# Altium footprint library Gelnar.PcbLib: 295 footprints (part 3 of 19)
Each footprint in its own frame and in the unit in brackets; x right, y up, seen from the top. Pads: shape width x height; smd on the part's side, far side on the other; paste and mask are expansions set on the pad; w line width, h text height; cw(c..) or ccw(c..) is an arc to the next point about the centre after c.
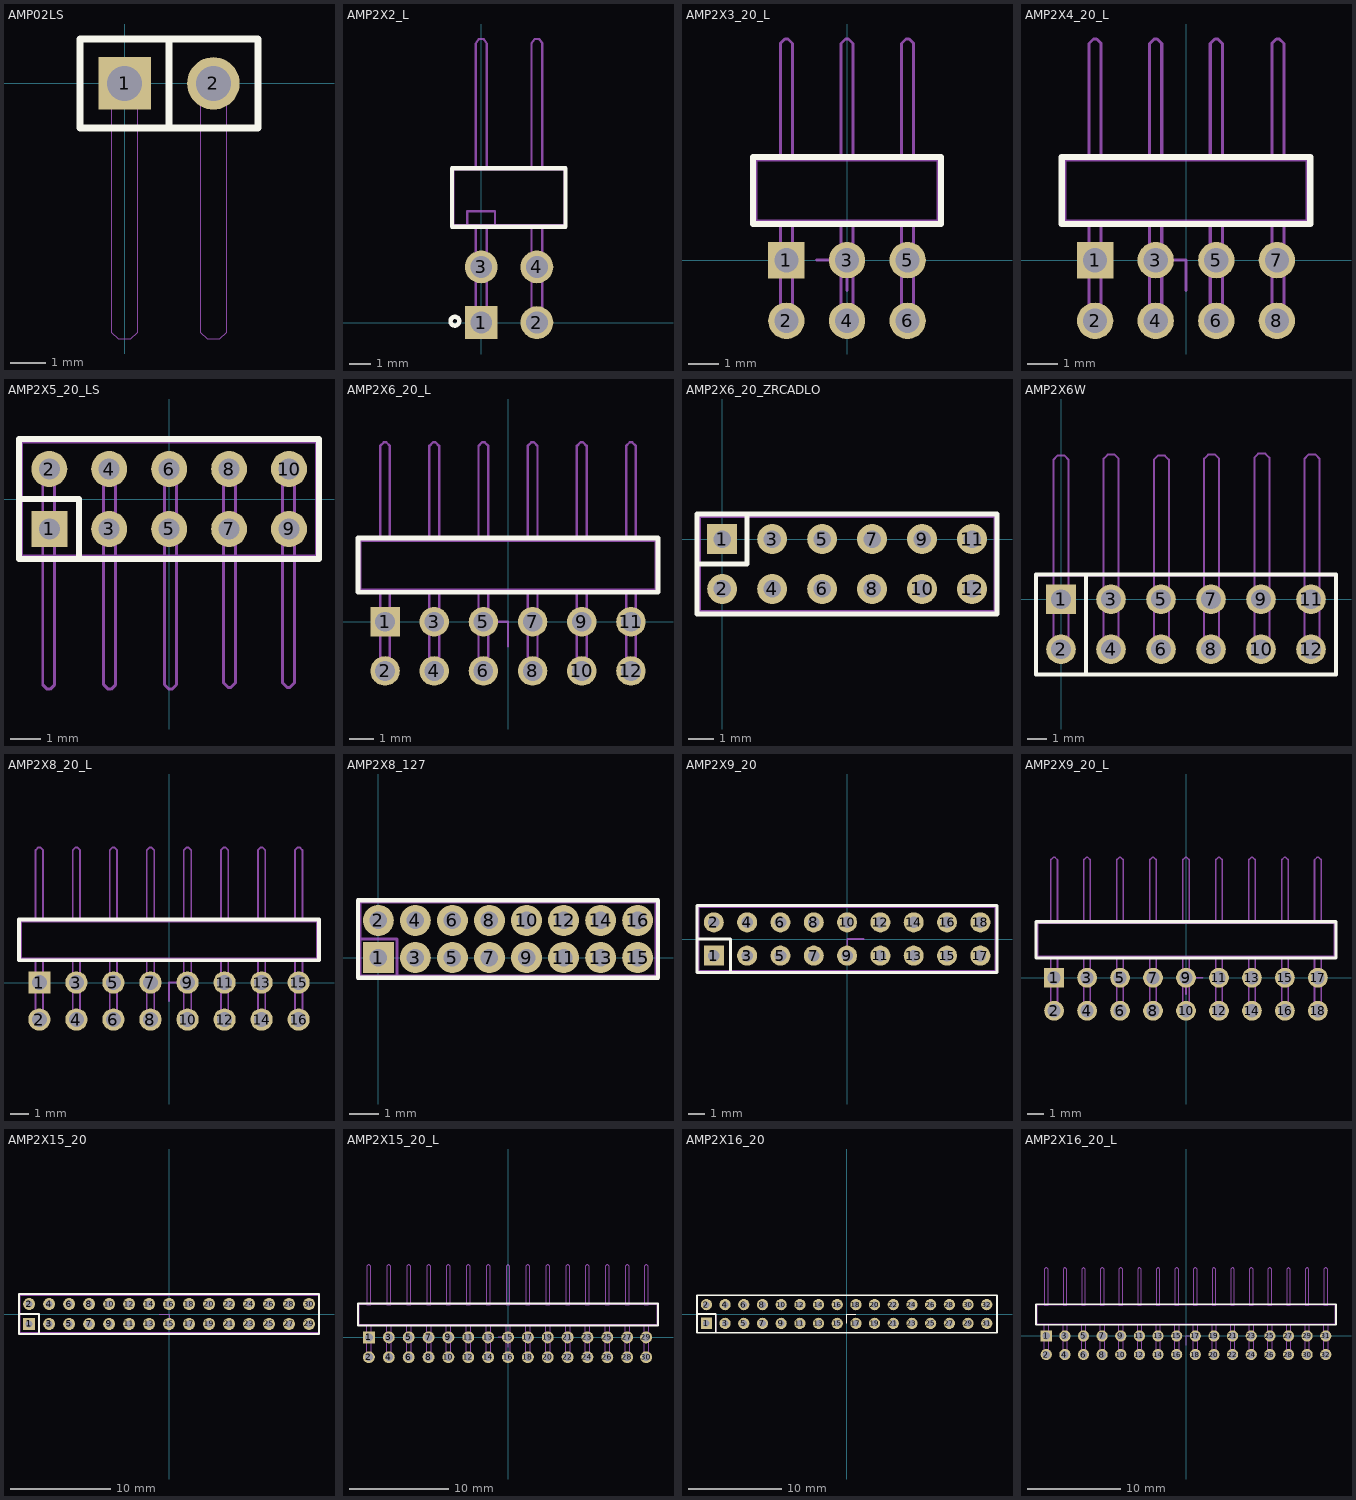
[diagram p2: the footprints below, top view; thin cyan lines are the x and y axes]

## AMP02LS [mm]
height 9.5
pads (2):
  rect 1.5x1.5 hole 1 mask+0.05: 1(0,0)
  round 1.5 hole 1 mask+0.05: 2(2.54,0)
Top Overlay:
  lines w0.2: 1.27,-1.27 1.27,1.27 ; -1.27,-1.27 3.81,-1.27 3.81,1.27 -1.27,1.27 -1.27,-1.27
Mechanical 15:
  lines w0.01: -1.27,-1.27 3.81,-1.27 3.81,1.27 -1.27,1.27 -1.27,-1.27 ; -0.381,-7.103 -0.381,0 0.381,0 0.381,-7.103 0.181,-7.302 -0.181,-7.302 -0.381,-7.103 ; 2.159,-7.103 2.159,0 2.921,0 2.921,-7.103 2.721,-7.302 2.359,-7.302 2.159,-7.103
  lines w0.1: 1.27,-1.27 1.27,1.27
Mechanical 20:
  lines w0.01: -1.206,-1.206 3.746,-1.206 3.746,1.206 -1.206,1.206 -1.206,-1.206

## AMP2X2_L [mm]
height 9.5
pads (4):
  rect 1.5x1.5 hole 1 mask+0.1: 1(0,0)
  round 1.5 hole 1 mask+0.1: 2(2.54,0) 3(0,2.54) 4(2.54,2.54)
Top Overlay:
  circle w0.2: c-1.206,0.064 r0.2
  lines w0.2: -1.333,4.381 3.85,4.381 3.85,7.048 -1.333,7.048 -1.333,4.381
Mechanical 15:
  lines w0.1: -0.25,0 -0.25,4.445 ; 0.25,0 0.25,4.445 ; 2.29,0 2.29,4.445 ; 2.79,0 2.79,4.445 ; -1.27,4.445 3.81,4.445 3.81,6.985 -1.27,6.985 -1.27,4.445 ; -0.635,4.445 0.635,4.445 0.635,5.08 -0.635,5.08 -0.635,4.445 ; -0.25,7.035 0.25,7.035 0.25,12.75 0.1,12.95 -0.1,12.95 -0.25,12.75 -0.25,7.035 ; 2.29,7.035 2.79,7.035 2.79,12.75 2.64,12.95 2.44,12.95 2.29,12.75 2.29,7.035
Multi-Layer:
  text "Value" at 1.368,2.941 h0.75
Mechanical 20:
  lines w0.1: -1.333,4.381 3.85,4.381 3.85,7.048 -1.333,7.048 -1.333,4.381

## AMP2X3_20_L [mm]
pads (6):
  rect 1.2x1.2 hole 0.8 mask+0.05: 1(-2,0)
  round 1.2 hole 0.8 mask+0.05: 2(-2,-2) 3(0,0) 4(0,-2) 5(2,0) 6(2,-2)
Top Overlay:
  lines w0.2: -3.1,1.2 3.1,1.2 3.1,3.4 -3.1,3.4 -3.1,1.2
Mechanical 15:
  lines w0.1: -3,1.3 3,1.3 3,3.3 -3,3.3 -3,1.3 ; -2.2,-2 -1.8,-2 -1.8,1.3 -2.2,1.3 -2.2,-2 ; -2.2,3.3 -1.8,3.3 -1.8,7.15 -1.95,7.3 -2.05,7.3 -2.2,7.15 -2.2,3.3 ; -0.2,-2 0.2,-2 0.2,1.3 -0.2,1.3 -0.2,-2 ; -0.2,3.3 0.2,3.3 0.2,7.15 0.05,7.3 -0.05,7.3 -0.2,7.15 -0.2,3.3 ; 1.8,-2 2.2,-2 2.2,1.3 1.8,1.3 1.8,-2 ; 1.8,3.3 2.2,3.3 2.2,7.15 2.05,7.3 1.95,7.3 1.8,7.15 1.8,3.3
Mechanical 19:
  lines w0.1: -1,0 0,0 0,-1
Mechanical 20:
  lines w0.1: -3.1,1.2 3.1,1.2 3.1,3.4 -3.1,3.4 -3.1,1.2

## AMP2X4_20_L [mm]
pads (8):
  rect 1.2x1.2 hole 0.8 mask+0.05: 1(-3,0)
  round 1.2 hole 0.8 mask+0.05: 2(-3,-2) 3(-1,0) 4(-1,-2) 5(1,0) 6(1,-2) 7(3,0) 8(3,-2)
Top Overlay:
  lines w0.2: -4.1,1.2 4.1,1.2 4.1,3.4 -4.1,3.4 -4.1,1.2
Mechanical 15:
  lines w0.1: -4,1.3 4,1.3 4,3.3 -4,3.3 -4,1.3 ; -3.2,-2 -2.8,-2 -2.8,1.3 -3.2,1.3 -3.2,-2 ; -3.2,3.3 -2.8,3.3 -2.8,7.15 -2.95,7.3 -3.05,7.3 -3.2,7.15 -3.2,3.3 ; -1.2,-2 -0.8,-2 -0.8,1.3 -1.2,1.3 -1.2,-2 ; -1.2,3.3 -0.8,3.3 -0.8,7.15 -0.95,7.3 -1.05,7.3 -1.2,7.15 -1.2,3.3 ; 0.8,-2 1.2,-2 1.2,1.3 0.8,1.3 0.8,-2 ; 0.8,3.3 1.2,3.3 1.2,7.15 1.05,7.3 0.95,7.3 0.8,7.15 0.8,3.3 ; 2.832,-2 3.232,-2 3.232,1.3 2.832,1.3 2.832,-2 ; 2.832,3.3 3.232,3.3 3.232,7.15 3.082,7.3 2.982,7.3 2.832,7.15 2.832,3.3
Multi-Layer:
  text "Value" at 3.165,2.075 h0.75
Mechanical 19:
  lines w0.1: -1,0 0,0 0,-1
Mechanical 20:
  lines w0.1: -4.1,1.2 4.1,1.2 4.1,3.4 -4.1,3.4 -4.1,1.2

## AMP2X5_20_LS [mm]
pads (10):
  rect 1.2x1.2 hole 0.7 mask+0.1: 1(-4,-1)
  round 1.2 hole 0.7 mask+0.1: 2(-4,1) 3(-2,-1) 4(-2,1) 5(0,-1) 6(0,1) 7(2,-1) 8(2,1) 9(4,-1) 10(4,1)
Top Overlay:
  lines w0.2: -5,0 -3,0 -3,-2 ; -5.01,-2.01 5,-2.01 5,2.01 -5.01,2.01 -5.01,-2.01
Mechanical 15:
  lines w0.1: -5,0 -3,0 -3,-2 ; -5,-2 5,-2 5,2 -5,2 -5,-2 ; -5,-2 -5,-2 ; -4.217,-6.198 -4.217,1.016 cw(c-4.018,1.007) -3.818,1.016 -3.818,-6.198 -3.968,-6.348 -4.068,-6.348 -4.217,-6.198 ; -2.185,-6.198 -2.185,1.016 cw(c-1.986,1.007) -1.786,1.016 -1.786,-6.198 -1.936,-6.348 -2.036,-6.348 -2.185,-6.198 ; -0.153,-6.198 -0.153,1.016 cw(c0.046,1.007) 0.246,1.016 0.246,-6.198 0.096,-6.348 -0.004,-6.348 -0.153,-6.198 ; 1.815,-6.134 1.815,1.079 cw(c2.015,1.071) 2.215,1.08 2.215,-6.134 2.065,-6.284 1.965,-6.284 1.815,-6.134 ; 3.784,-6.134 3.784,1.079 cw(c3.983,1.071) 4.183,1.08 4.183,-6.134 4.033,-6.284 3.933,-6.284 3.784,-6.134
Mechanical 20:
  lines w0.1: -4.921,-1.905 4.921,-1.905 4.921,1.905 -4.921,1.905 -4.921,-1.905

## AMP2X6_20_L [mm]
pads (12):
  rect 1.2x1.2 hole 0.8 mask+0.05: 1(-5,0)
  round 1.2 hole 0.8 mask+0.05: 2(-5,-2) 3(-3,0) 4(-3,-2) 5(-1,0) 6(-1,-2) 7(1,0) 8(1,-2) 9(3,0) 10(3,-2) 11(5,0) 12(5,-2)
Top Overlay:
  lines w0.2: -6.1,1.2 6.1,1.2 6.1,3.4 -6.1,3.4 -6.1,1.2
Mechanical 15:
  lines w0.1: -6,1.3 6,1.3 6,3.3 -6,3.3 -6,1.3 ; -5.2,-2 -4.8,-2 -4.8,1.3 -5.2,1.3 -5.2,-2 ; -5.2,3.3 -4.8,3.3 -4.8,7.15 -4.95,7.3 -5.05,7.3 -5.2,7.15 -5.2,3.3 ; -3.2,-2 -2.8,-2 -2.8,1.3 -3.2,1.3 -3.2,-2 ; -3.2,3.3 -2.8,3.3 -2.8,7.15 -2.95,7.3 -3.05,7.3 -3.2,7.15 -3.2,3.3 ; -1.2,-2 -0.8,-2 -0.8,1.3 -1.2,1.3 -1.2,-2 ; -1.2,3.3 -0.8,3.3 -0.8,7.15 -0.95,7.3 -1.05,7.3 -1.2,7.15 -1.2,3.3 ; 0.8,-2 1.2,-2 1.2,1.3 0.8,1.3 0.8,-2 ; 0.8,3.3 1.2,3.3 1.2,7.15 1.05,7.3 0.95,7.3 0.8,7.15 0.8,3.3 ; 2.8,-2 3.2,-2 3.2,1.3 2.8,1.3 2.8,-2 ; 2.8,3.3 3.2,3.3 3.2,7.15 3.05,7.3 2.95,7.3 2.8,7.15 2.8,3.3 ; 4.8,-2 5.2,-2 5.2,1.3 4.8,1.3 4.8,-2 ; 4.8,3.3 5.2,3.3 5.2,7.15 5.05,7.3 4.95,7.3 4.8,7.15 4.8,3.3
Mechanical 19:
  lines w0.1: -1,0 0,0 0,-1
Mechanical 20:
  lines w0.1: -6.1,1.2 6.1,1.2 6.1,3.4 -6.1,3.4 -6.1,1.2

## AMP2X6_20_ZRCADLO [mm]
pads (12):
  rect 1.2x1.2 hole 0.7 mask+0.05: 1(0,0)
  round 1.2 hole 0.7 mask+0.05: 2(0,-2) 3(2,0) 4(2,-2) 5(4,0) 6(4,-2) 7(6,0) 8(6,-2) 9(8,0) 10(8,-2) 11(10,0) 12(10,-2)
Top Overlay:
  lines w0.2: -1,-1 1,-1 1,1 ; -1.01,-3.01 11,-3.01 11,1.01 -1.01,1.01 -1.01,-3.01
Mechanical 15:
  lines w0.1: -1,-1 1,-1 1,1 ; -1,-3 11,-3 11,1 -1,1 -1,-3 ; -1,-3 -1,-3
Mechanical 20:
  lines w0.1: -0.9,-2.9 10.9,-2.9 10.9,0.9 -0.9,0.9 -0.9,-2.9

## AMP2X6W [mm]
height 9.5
pads (12):
  rect 1.5x1.5 hole 1 mask+0.05: 1(0,0)
  round 1.5 hole 1 mask+0.05: 2(0,-2.54) 3(2.54,0) 4(2.54,-2.54) 5(5.08,0) 6(5.08,-2.54) 7(7.62,0) 8(7.62,-2.54) 9(10.16,0) 10(10.16,-2.54) 11(12.7,0) 12(12.7,-2.54)
Top Overlay:
  lines w0.2: 1.27,-3.81 1.27,1.27 ; -1.27,-3.81 13.97,-3.81 13.97,1.27 -1.27,1.27 -1.27,-3.81
Mechanical 15:
  lines w0.1: 1.27,-3.81 1.27,1.27 ; -1.27,-3.81 13.97,-3.81 13.97,1.27 -1.27,1.27 -1.27,-3.81 ; -0.381,-2.54 0.381,-2.54 0.381,7.103 0.181,7.302 -0.181,7.302 -0.381,7.103 -0.381,-2.54 ; 2.169,-2.54 2.931,-2.54 2.931,7.153 2.731,7.352 2.369,7.352 2.169,7.153 2.169,-2.54 ; 4.719,-2.54 5.481,-2.54 5.481,7.103 5.281,7.302 4.919,7.302 4.719,7.103 4.719,-2.54 ; 7.269,-2.54 8.031,-2.54 8.031,7.153 7.831,7.352 7.469,7.352 7.269,7.153 7.269,-2.54 ; 9.819,-2.54 10.581,-2.54 10.581,7.203 10.381,7.402 10.019,7.402 9.819,7.203 9.819,-2.54 ; 12.369,-2.54 13.131,-2.54 13.131,7.153 12.931,7.352 12.569,7.352 12.369,7.153 12.369,-2.54
Multi-Layer:
  text "Value" at 9.75,-0.361 h0.75
Mechanical 20:
  lines w0.1: -1.206,-3.81 13.906,-3.81 13.906,1.206 -1.206,1.206 -1.206,-3.81

## AMP2X8_20_L [mm]
pads (16):
  rect 1.2x1.2 hole 0.8 mask+0.05: 1(-7,0)
  round 1.2 hole 0.8 mask+0.05: 2(-7,-2) 3(-5,0) 4(-5,-2) 5(-3,0) 6(-3,-2) 7(-1,0) 8(-1,-2) 9(1,0) 10(1,-2) 11(3,0) 12(3,-2) 13(5,0) 14(5,-2) 15(7,0) 16(7,-2)
Top Overlay:
  lines w0.2: -8.1,1.2 8.1,1.2 8.1,3.4 -8.1,3.4 -8.1,1.2
Mechanical 15:
  lines w0.1: -7.2,0 -6.8,0 ; -5.2,0 -4.8,0 ; -3.2,0 -2.8,0 ; -1.2,0 -0.8,0 ; 0.8,0 1.2,0 ; 2.8,0 3.2,0 ; 4.8,0 5.2,0 ; 6.8,0 7.2,0 ; -8,1.3 8,1.3 8,3.3 -8,3.3 -8,1.3 ; -7.2,-2 -6.8,-2 -6.8,1.3 -7.2,1.3 -7.2,-2 ; -7.2,3.3 -6.8,3.3 -6.8,7.15 -6.95,7.3 -7.05,7.3 -7.2,7.15 -7.2,3.3 ; -5.2,-2 -4.8,-2 -4.8,1.3 -5.2,1.3 -5.2,-2 ; -5.2,3.3 -4.8,3.3 -4.8,7.15 -4.95,7.3 -5.05,7.3 -5.2,7.15 -5.2,3.3 ; -3.2,-2 -2.8,-2 -2.8,1.3 -3.2,1.3 -3.2,-2 ; -3.2,3.3 -2.8,3.3 -2.8,7.15 -2.95,7.3 -3.05,7.3 -3.2,7.15 -3.2,3.3 ; -1.2,-2 -0.8,-2 -0.8,1.3 -1.2,1.3 -1.2,-2 ; -1.2,3.3 -0.8,3.3 -0.8,7.15 -0.95,7.3 -1.05,7.3 -1.2,7.15 -1.2,3.3 ; 0.8,-2 1.2,-2 1.2,1.3 0.8,1.3 0.8,-2 ; 0.8,3.3 1.2,3.3 1.2,7.15 1.05,7.3 0.95,7.3 0.8,7.15 0.8,3.3 ; 2.8,-2 3.2,-2 3.2,1.3 2.8,1.3 2.8,-2 ; 2.8,3.3 3.2,3.3 3.2,7.15 3.05,7.3 2.95,7.3 2.8,7.15 2.8,3.3 ; 4.8,-2 5.2,-2 5.2,1.3 4.8,1.3 4.8,-2 ; 4.8,3.3 5.2,3.3 5.2,7.15 5.05,7.3 4.95,7.3 4.8,7.15 4.8,3.3 ; 6.8,-2 7.2,-2 7.2,1.3 6.8,1.3 6.8,-2 ; 6.8,3.3 7.2,3.3 7.2,7.15 7.05,7.3 6.95,7.3 6.8,7.15 6.8,3.3
Mechanical 19:
  lines w0.1: 0,-1 0,0 1,0
Mechanical 20:
  lines w0.1: -8.1,1.2 8.1,1.2 8.1,3.4 -8.1,3.4 -8.1,1.2

## AMP2X8_127 [mm]
height 9.5
pads (16):
  rect 1.06x1.06 hole 0.6 mask+0.05: 1(0,0)
  round 1.06 hole 0.6 mask+0.05: 2(0,1.27) 3(1.27,0) 4(1.27,1.27) 5(2.54,0) 6(2.54,1.27) 7(3.81,0) 8(3.81,1.27) 9(5.08,0) 10(5.08,1.27) 11(6.35,0) 12(6.35,1.27) 13(7.62,0) 14(7.62,1.27) 15(8.89,0) 16(8.89,1.27)
Top Overlay:
  lines w0.15: -0.699,-0.699 9.588,-0.699 9.588,1.968 -0.699,1.968 -0.699,-0.699
Mechanical 15:
  lines w0.1: -0.635,0.635 0.635,0.635 0.635,-0.635 ; -0.635,-0.635 9.525,-0.635 9.525,1.905 -0.635,1.905 -0.635,-0.635
Mechanical 20:
  lines w0.1: -0.699,-0.699 9.588,-0.699 9.588,1.968 -0.699,1.968 -0.699,-0.699

## AMP2X9_20 [mm]
pads (18):
  rect 1.2x1.2 hole 0.7 mask+0.05: 1(-8,-1)
  round 1.2 hole 0.7 mask+0.05: 2(-8,1) 3(-6,-1) 4(-6,1) 5(-4,-1) 6(-4,1) 7(-2,-1) 8(-2,1) 9(0,-1) 10(0,1) 11(2,-1) 12(2,1) 13(4,-1) 14(4,1) 15(6,-1) 16(6,1) 17(8,-1) 18(8,1)
Top Overlay:
  lines w0.2: -9,0 -7,0 -7,-2 ; -9.01,-2.01 9,-2.01 9,2.01 -9.01,2.01 -9.01,-2.01
Mechanical 15:
  lines w0.1: -9,0 -7,0 -7,-2 ; -9,-2 -9,-2 9,-2 9,2 -9,2 -9,-2
Mechanical 19:
  lines w0.1: 0,-1 0,0 1,0
Mechanical 20:
  lines w0.1: -8.9,-1.9 8.9,-1.9 8.9,1.9 -8.9,1.9 -8.9,-1.9

## AMP2X9_20_L [mm]
pads (18):
  rect 1.2x1.2 hole 0.8 mask+0.05: 1(-8,0)
  round 1.2 hole 0.8 mask+0.05: 2(-8,-2) 3(-6,0) 4(-6,-2) 5(-4,0) 6(-4,-2) 7(-2,0) 8(-2,-2) 9(0,0) 10(0,-2) 11(2,0) 12(2,-2) 13(4,0) 14(4,-2) 15(6,0) 16(6,-2) 17(8,0) 18(8,-2)
Top Overlay:
  lines w0.2: -9.1,1.2 9.1,1.2 9.1,3.4 -9.1,3.4 -9.1,1.2
Mechanical 15:
  lines w0.1: -8.2,0 -7.8,0 ; -6.2,0 -5.8,0 ; -4.2,0 -3.8,0 ; -2.2,0 -1.8,0 ; -0.2,0 0.2,0 ; 1.8,0 2.2,0 ; 3.8,0 4.2,0 ; 5.8,0 6.2,0 ; 7.8,0 8.2,0 ; -9,1.3 9,1.3 9,3.3 -9,3.3 -9,1.3 ; -8.2,-2 -7.8,-2 -7.8,1.3 -8.2,1.3 -8.2,-2 ; -8.2,3.3 -7.8,3.3 -7.8,7.15 -7.95,7.3 -8.05,7.3 -8.2,7.15 -8.2,3.3 ; -6.2,-2 -5.8,-2 -5.8,1.3 -6.2,1.3 -6.2,-2 ; -6.2,3.3 -5.8,3.3 -5.8,7.15 -5.95,7.3 -6.05,7.3 -6.2,7.15 -6.2,3.3 ; -4.2,-2 -3.8,-2 -3.8,1.3 -4.2,1.3 -4.2,-2 ; -4.2,3.3 -3.8,3.3 -3.8,7.15 -3.95,7.3 -4.05,7.3 -4.2,7.15 -4.2,3.3 ; -2.2,-2 -1.8,-2 -1.8,1.3 -2.2,1.3 -2.2,-2 ; -2.2,3.3 -1.8,3.3 -1.8,7.15 -1.95,7.3 -2.05,7.3 -2.2,7.15 -2.2,3.3 ; -0.2,-2 0.2,-2 0.2,1.3 -0.2,1.3 -0.2,-2 ; -0.2,3.3 0.2,3.3 0.2,7.15 0.05,7.3 -0.05,7.3 -0.2,7.15 -0.2,3.3 ; 1.8,-2 2.2,-2 2.2,1.3 1.8,1.3 1.8,-2 ; 1.8,3.3 2.2,3.3 2.2,7.15 2.05,7.3 1.95,7.3 1.8,7.15 1.8,3.3 ; 3.8,-2 4.2,-2 4.2,1.3 3.8,1.3 3.8,-2 ; 3.8,3.3 4.2,3.3 4.2,7.15 4.05,7.3 3.95,7.3 3.8,7.15 3.8,3.3 ; 5.8,-2 6.2,-2 6.2,1.3 5.8,1.3 5.8,-2 ; 5.8,3.3 6.2,3.3 6.2,7.15 6.05,7.3 5.95,7.3 5.8,7.15 5.8,3.3 ; 7.8,-2 8.2,-2 8.2,1.3 7.8,1.3 7.8,-2 ; 7.8,3.3 8.2,3.3 8.2,7.15 8.05,7.3 7.95,7.3 7.8,7.15 7.8,3.3
Mechanical 19:
  lines w0.1: 0,-1 0,0 1,0
Mechanical 20:
  lines w0.1: -9.1,1.2 9.1,1.2 9.1,3.4 -9.1,3.4 -9.1,1.2

## AMP2X15_20 [mm]
pads (30):
  rect 1.2x1.2 hole 0.7 mask+0.05: 1(-14,-1)
  round 1.2 hole 0.7 mask+0.05: 2(-14,1) 3(-12,-1) 4(-12,1) 5(-10,-1) 6(-10,1) 7(-8,-1) 8(-8,1) 9(-6,-1) 10(-6,1) 11(-4,-1) 12(-4,1) 13(-2,-1) 14(-2,1) 15(0,-1) 16(0,1) 17(2,-1) 18(2,1) 19(4,-1) 20(4,1) 21(6,-1) 22(6,1) 23(8,-1) 24(8,1) 25(10,-1) 26(10,1) 27(12,-1) 28(12,1) 29(14,-1) 30(14,1)
Top Overlay:
  lines w0.2: -15,0 -13,0 -13,-2 ; -15.01,-2.01 15,-2.01 15,2.01 -15.01,2.01 -15.01,-2.01
Mechanical 15:
  lines w0.1: -15,0 -13,0 -13,-2 ; -1,0 0,0 0,-1 ; -15,-2 15,-2 15,2 -15,2 -15,-2 ; -15,-2 -15,-2
Mechanical 20:
  lines w0.1: -14.9,-1.9 14.95,-1.9 14.95,1.9 -14.9,1.9 -14.9,-1.9

## AMP2X15_20_L [mm]
pads (30):
  rect 1.2x1.2 hole 0.8 mask+0.05: 1(-14,0)
  round 1.2 hole 0.8 mask+0.05: 2(-14,-2) 3(-12,0) 4(-12,-2) 5(-10,0) 6(-10,-2) 7(-8,0) 8(-8,-2) 9(-6,0) 10(-6,-2) 11(-4,0) 12(-4,-2) 13(-2,0) 14(-2,-2) 15(0,0) 16(0,-2) 17(2,0) 18(2,-2) 19(4,0) 20(4,-2) 21(6,0) 22(6,-2) 23(8,0) 24(8,-2) 25(10,0) 26(10,-2) 27(12,0) 28(12,-2) 29(13.905,0) 30(13.905,-2)
Top Overlay:
  lines w0.2: -15.1,1.2 15.1,1.2 15.1,3.4 -15.1,3.4 -15.1,1.2
Mechanical 15:
  drawing of 154 lines, arcs and shapes, not listed
Multi-Layer:
  text "Value" at -1.135,1.975 h0.75
Mechanical 19:
  lines w0.1: -1,0 0,0 0,-1
Mechanical 20:
  lines w0.1: -15.1,1.2 15.1,1.2 15.1,3.4 -15.1,3.4 -15.1,1.2

## AMP2X16_20 [mm]
pads (32):
  rect 1.2x1.2 hole 0.7 mask+0.05: 1(-15,-1)
  round 1.2 hole 0.7 mask+0.05: 2(-15,1) 3(-13,-1) 4(-13,1) 5(-11,-1) 6(-11,1) 7(-9,-1) 8(-9,1) 9(-7,-1) 10(-7,1) 11(-5,-1) 12(-5,1) 13(-3,-1) 14(-3,1) 15(-1,-1) 16(-1,1) 17(1,-1) 18(1,1) 19(3,-1) 20(3,1) 21(5,-1) 22(5,1) 23(7,-1) 24(7,1) 25(9,-1) 26(9,1) 27(11,-1) 28(11,1) 29(13,-1) 30(13,1) 31(15,-1) 32(15,1)
Top Overlay:
  lines w0.1: 0,-1 0,0 1,0
  lines w0.2: -16,0 -14,0 -14,-2 ; -16.01,-2.01 16.1,-2.01 16.1,2.01 -16.01,2.01 -16.01,-2.01
Mechanical 15:
  lines w0.1: -16,0 -14,0 -14,-2 ; -16,-2 16,-2 16,2 -16,2 -16,-2 ; -16,-2 -16,-2
Mechanical 20:
  lines w0.1: -16,-2 16.05,-2 16.05,2 -16,2 -16,-2

## AMP2X16_20_L [mm]
pads (32):
  rect 1.2x1.2 hole 0.8 mask+0.05: 1(-15,0)
  round 1.2 hole 0.8 mask+0.05: 2(-15,-2) 3(-13,0) 4(-13,-2) 5(-11,0) 6(-11,-2) 7(-9,0) 8(-9,-2) 9(-7,0) 10(-7,-2) 11(-5,0) 12(-5,-2) 13(-3,0) 14(-3,-2) 15(-1,0) 16(-1,-2) 17(1,0) 18(1,-2) 19(3,0) 20(3,-2) 21(5,0) 22(5,-2) 23(7,0) 24(7,-2) 25(9,0) 26(9,-2) 27(11,0) 28(11,-2) 29(13,0) 30(13,-2) 31(15,0) 32(15,-2)
Top Overlay:
  lines w0.2: -16.1,1.2 16.1,1.2 16.1,3.4 -16.1,3.4 -16.1,1.2
Mechanical 15:
  drawing of 180 lines, arcs and shapes, not listed
Mechanical 19:
  lines w0.1: 0,-1 0,0 1,0
Mechanical 20:
  lines w0.1: -16.1,1.2 16.1,1.2 16.1,3.4 -16.1,3.4 -16.1,1.2